# EAGLE library part SWITCH-6PIN-LOCK-2.54MM (library Itead-misc)
SOC016
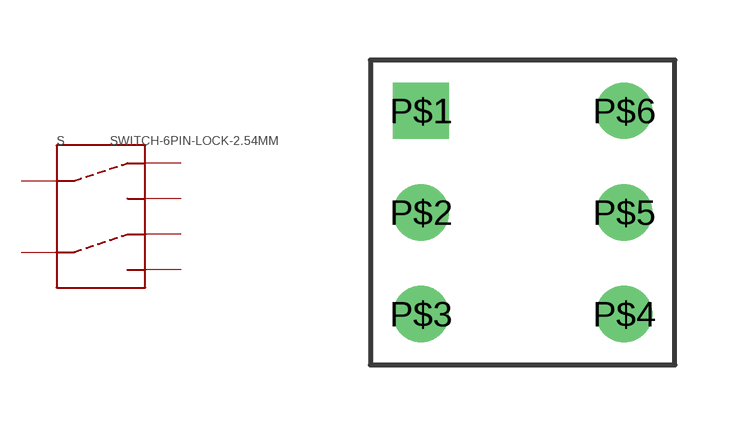
[diagram p28: symbol with the pads of SWITCH-6PIN-LOCK-2.54MM; footprint SWITCH-6PIN-LOCK-2.54MM]

Designator prefix S

## SWITCH-6PIN-LOCK-2.54MM  [SWITCH-6PIN-LOCK-2.54MM]
P$1  P$1
P$2  P$2
P$3  P$3
P$4  P$4
P$5  P$5
P$6  P$6

## Footprint SWITCH-6PIN-LOCK-2.54MM (pad centres in mm)
drill 0.9 square: P$1 0,0
drill 0.9 round: P$2 0,-2.54; P$3 0,-5.08; P$4 5.08,-5.08; P$5 5.08,-2.54; P$6 5.08,0